# Altium integrated library TLP185.IntLib: 1 symbol
Pins are listed as number, name and electrical type; pins without a type are passive.

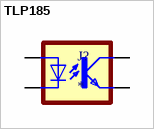
[diagram p0: symbol TLP185]

## TLP185
designator J?
Optoisolator Transistor Output 3750Vrms 1 Channel 6-SOP; MF: Toshiba; MP: TLP185; SnapEDA_Link: https://www.snapeda.com/parts/TLP185/Toshiba/view-part/?ref=snap; Package: None; Value: *; Check_prices: https://www.snapeda.com/parts/TLP185/Toshiba/view-part/?ref=eda
footprint SOP-4-2.54MM
pins: ANODE A, CATHODE C, COLLECTOR COL, EMITTER EMIT